# Altium footprint library CMR_Resistors_Capacitors_and_Inductors.PcbLib: 47 footprints (part 1 of 3)
Each footprint in its own frame and in the unit in brackets; x right, y up, seen from the top. Pads: shape width x height; smd on the part's side, far side on the other; paste and mask are expansions set on the pad; w line width, h text height; cw(c..) or ccw(c..) is an arc to the next point about the centre after c.
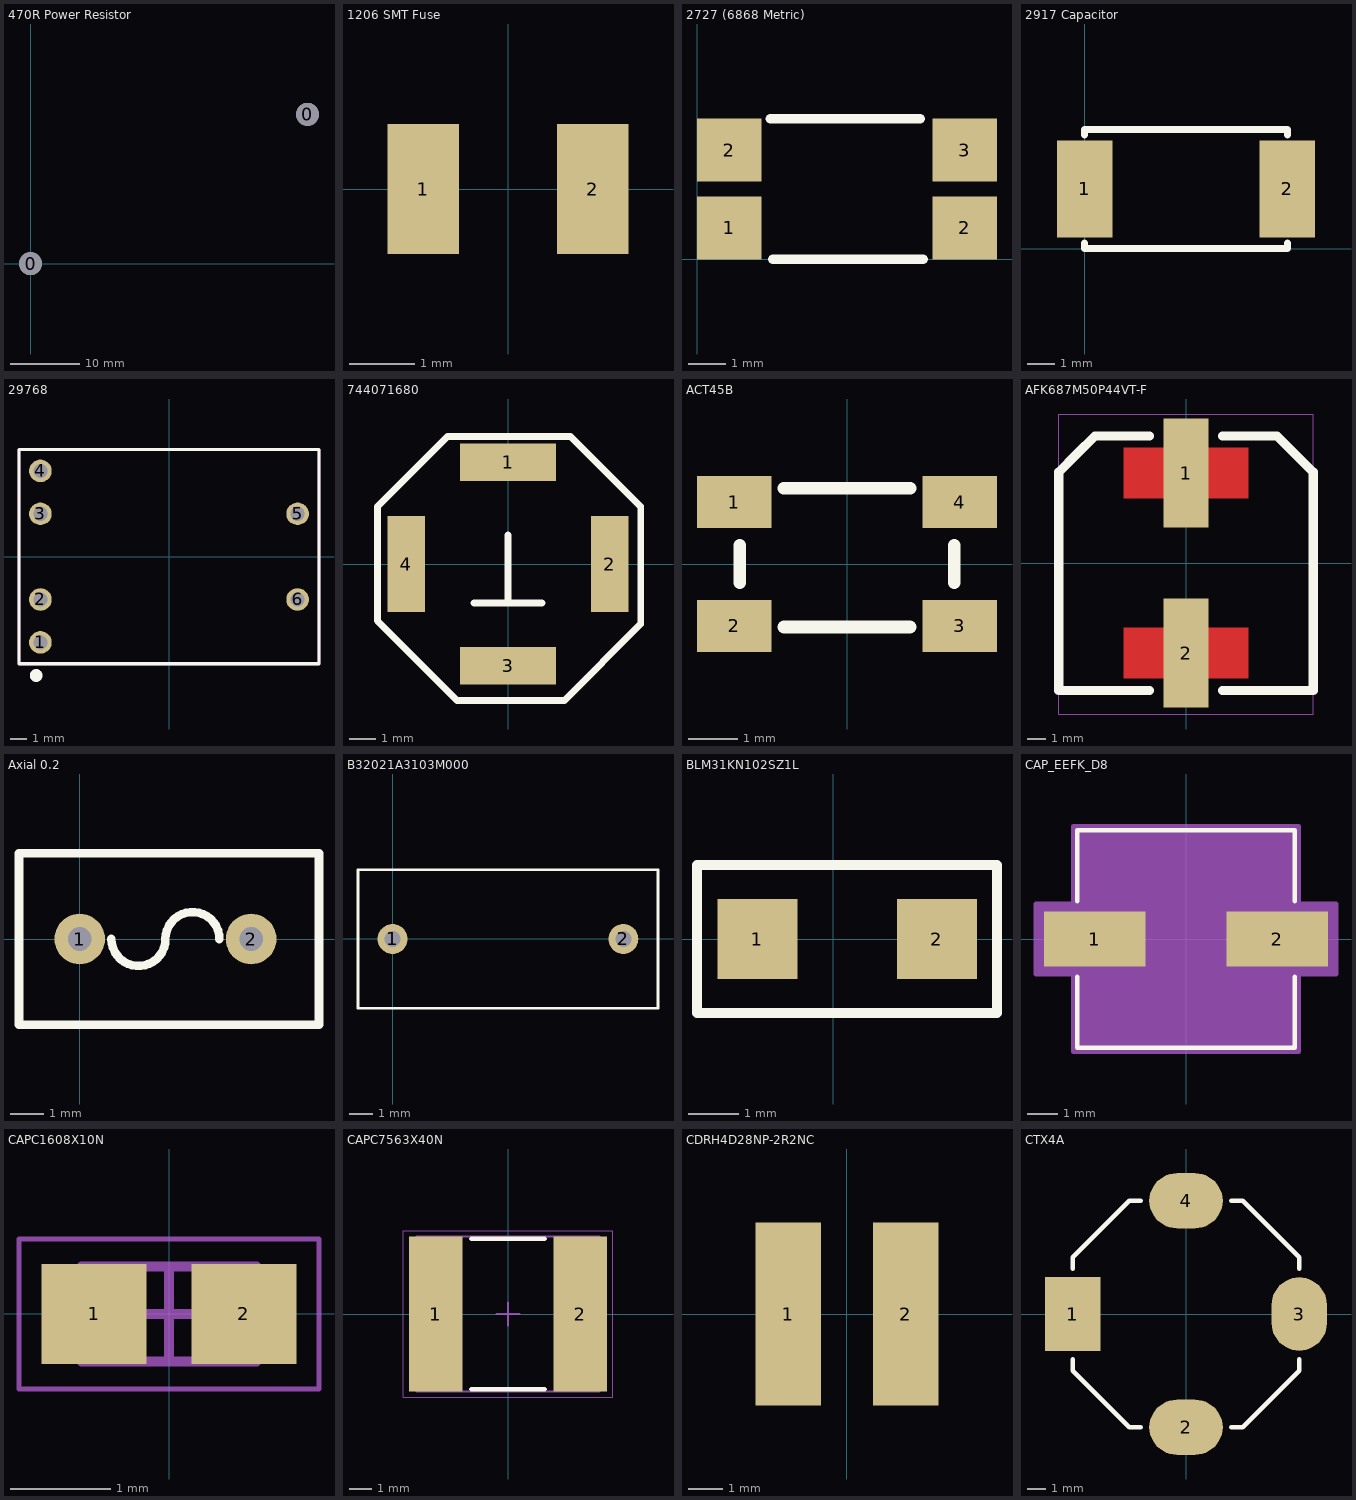
[diagram p0: the footprints below, top view; thin cyan lines are the x and y axes]

## 470R Power Resistor [mm] "HSA50 Series Power Resistor"
pads (2):
  round 3.3 hole 3.3 unplated paste+0 mask+0: 0(0,0) 0(39.7,21.4)
3D body "c-2-1625984-2-k-3d.stp": height 17, standoff 0, extent -16.412,-4.281 56.088,25.719

## 1206 SMT Fuse [mm] "for use with USFF 1206 Schurter Fuse"
height 1.6
pads (2):
  rect 1.1x2 smd: 1(-1.3,0) 2(1.3,0)
3D body "USFF1206.STEP": height 1.65, standoff -0.01, extent -1.6,-0.8 1.6,0.8

## 2727 (6868 Metric) [mm] "FIXED IND 230NH 13A 0.65 MOHM"
pads (4):
  rect 1.7x1.65 smd: 1(0.85,0.825) 2(0.85,2.875) 2(7.05,0.825) 3(7.05,2.875)
Top Overlay:
  region: 0,2.05
  lines w0.254: 1.925,3.7 5.875,3.7 ; 2,0 5.95,0
Top Solder:
  region: 1.7,3.8 1.7,1.95 3.225,1.95 3.225,-0.1 6.625,-0.1 6.625,1.75 4.875,1.75 4.875,3.8
3D body: height 5.35, standoff 0, extent 0.375,-1.75 7.375,5.45

## 2917 Capacitor [mm] "Tantalum Capacitor 2917"
height 2
pads (2):
  rect 2x3.5 smd: 1(0,2.15) 2(7.3,2.15)
Top Overlay:
  lines w0.254: 0,0.2 0,0 7.3,0 7.3,0.2 ; 0,4.1 0,4.3 7.3,4.3 7.3,4.1
3D body: height 2, standoff 0, extent 0,0 7.3,4.3

## 29768 [mm]
pads (6):
  round 1.34 hole 0.84: 1(-7.62,-5.08) 2(-7.62,-2.54) 3(-7.62,2.54) 4(-7.62,5.08) 5(7.62,2.54) 6(7.62,-2.54)
Top Overlay:
  circle w0.4: c-7.874,-7.045 r0.177
  lines w0.2: -8.89,-6.35 8.89,-6.35 8.89,6.35 -8.89,6.35 -8.89,-6.35
Mechanical 15:
  lines w0.2: -8.89,-6.35 -8.89,6.35 8.89,6.35 8.89,-6.35 -8.89,-6.35
3D body "29768_29775r6.STEP": height 9.02, standoff -3.43, extent -8.89,-6.35 8.89,6.35

## 744071680 [mm]
height 3.1
pads (4):
  rect 3.6x1.4 smd: 1(0,3.8) 3(0,-3.8)
  rect 1.4x3.6 smd: 2(3.8,0) 4(-3.8,0)
Top Overlay:
  lines w0.254: -1.27,-1.46 1.27,-1.46 ; 0,-1.46 0,1.08 ; -4.877,-2.12 -4.877,2.147 -2.261,4.763 2.337,4.763 4.953,2.147 4.953,-2.247 2.108,-5.092 -1.905,-5.092 -4.877,-2.12
3D body "WE-TPC_1028.stp": height 2.8, standoff 0.02, extent -4.971,-5.194 5.029,4.806

## ACT45B [mm] "CANBus Common Mode Choke"
height 3
pads (4):
  rect 1.5x1.05 smd: 1(-2.275,1.25) 2(-2.275,-1.25) 3(2.275,-1.25) 4(2.275,1.25)
Top Overlay:
  lines w0.254: -2.159,-0.381 -2.159,0.381 ; -1.27,-1.27 1.27,-1.27 ; -1.27,1.524 1.27,1.524 ; 2.159,-0.381 2.159,0.381
3D body: height 3, standoff 0, extent -2.35,-1.7 2.35,1.7

## AFK687M50P44VT-F [mm]
height 14.3
pads (2):
  rect 2.5x6 smd: 1(0,4.95) 2(0,-4.95)
Top Layer:
  rectangle: -3.45,-6.35 3.45,-3.55
  rectangle: -3.45,3.55 3.45,6.35
Top Overlay:
  lines w0.5: -2,-7 -7,-7 -7,5 -6,6 -5,7 -2,7 ; 2,-7 7,-7 7,5 5,7 2,7
Mechanical 15:
  lines w0.05: -7,-8.3 -0.25,-8.3 7,-8.3 7,8.2 -7,8.2 -7,-8.3
3D body: height 14.3, standoff 0, extent -6.5,-6.5 6.5,6.5
3D body: height 6, standoff 0, extent -6.75,-6.75 6.75,6.75

## Axial 0.2 [mm]
pads (2):
  round 1.5 hole 0.7: 1(0,0) 2(5.08,0)
Top Overlay:
  lines w0.254: 0.94,0 ccw(c1.74,0) 2.54,0 cw(c3.34,0) 4.14,0 ; -1.8,-2.54 -1.8,2.54 3.183,2.54 7.09,2.54 7.09,-2.54 -1.8,-2.54
3D body: height 8.76, standoff 0.2, extent -1.71,-2.5 6.99,2.5

## B32021A3103M000 [mm]
height 12
pads (2):
  round 1.3 hole 0.7: 1(0,0) 2(10,0)
Top Overlay:
  lines w0.127: -1.499,-3.003 -1.499,2.997 11.501,2.997 11.501,-3.003 -1.499,-3.003
3D body: height 12, standoff 0, extent -1.498,-3.002 11.501,2.997

## BLM31KN102SZ1L [mm]
pads (2):
  rect 1.6x1.6 smd: 1(-1.52,0) 2(2.07,0)
Top Overlay:
  lines w0.2: -2.725,-1.475 3.275,-1.475 3.275,1.475 -2.725,1.475 -2.725,0 -2.725,-1.475

## CAP_EEFK_D8 [mil]
pads (2):
  rect 130x70 smd paste+0 mask+0: 1(-116.5,0) 2(116.5,0)
Top Overlay:
  lines w6: -139,-48.1 -139,-139 139,-139 139,-48.1 ; -139,48.1 -139,139 139,139 139,48.1
Mechanical 13:
  lines w1: -134,-67 -67,-134 ; -134,67 -67,134 ; -134,-134 134,-134 134,134 -134,134 -134,-134
Mechanical 15:
  region: -144,-45 -191.5,-45 -191.5,45 -144,45 -144,144 144,144 144,45 191.5,45 191.5,-45 144,-45 144,-144 -144,-144
  lines w6: -191.5,-45 -191.5,45 -144,45 -144,144 144,144 144,45 191.5,45 191.5,-45 144,-45 144,-144 -144,-144 -144,-45 -191.5,-45
3D body: height 10, standoff 0, extent 0,0 10,10
3D body "CAP_EEFK_D8.stp": height 317.01, standoff 0, extent -153.5,-134.01 153.51,134.02

## CAPC1608X10N [mm] "Chip Capacitor, 2-Leads, Body 1.60x0.80mm, IPC Medium Density"
height 0.95
pads (2):
  rect 1.05x1 smd: 1(-0.75,0) 2(0.75,0)
Mechanical 13:
  lines w0.1: -0.875,-0.475 -0.875,0.475 0.875,0.475 0.875,-0.475 -0.875,-0.475
Mechanical 15:
  lines w0.05: -1.5,-0.75 -1.5,0.75 1.5,0.75 1.5,-0.75 -1.5,-0.75
  lines w0.1: -0.475,0 0.475,0 ; 0,-0.475 0,0.475
3D body "CAPC1608X10N.step": height 0.95, standoff 0, extent -0.875,-0.475 0.875,0.475

## CAPC7563X40N [mm] "Chip Capacitor, 2-Leads, Body 7.50x6.30mm, IPC Medium Density"
height 4
pads (2):
  rect 2.35x6.8 smd: 1(-3.175,0) 2(3.175,0)
Top Overlay:
  lines w0.2: -1.6,-3.3 1.6,-3.3 ; -1.6,3.3 1.6,3.3
Mechanical 13:
  lines w0.1: -4,-3.4 -4,3.4 4,3.4 4,-3.4 -4,-3.4
Mechanical 15:
  lines w0.05: -4.6,-3.65 -4.6,3.65 4.6,3.65 4.6,-3.65 -4.6,-3.65
  lines w0.1: -0.5,0 0.5,0 ; 0,-0.5 0,0.5
3D body "CAPC7563X40N.step": height 4, standoff 0, extent -4,-3.4 4,3.4

## CDRH4D28NP-2R2NC [mm]
pads (2):
  rect 1.9x5.3 smd: 1(-1.7,0) 2(1.7,0)

## CTX4A [mm] "CTX 4A series fixed inductor"
height 6.35
pads (4):
  rect 3.05x4.06 smd: 1(-6.25,0)
  oval 4.06x3.05 smd: 2(0,-6.25) 4(0,6.25)
  oval 3.05x4.06 smd: 3(6.25,0)
Top Overlay:
  lines w0.254: -6.25,-2.5 -6.25,-3.125 -3.125,-6.25 -2.5,-6.25 ; -6.25,2.5 -6.25,3.125 -3.125,6.25 -2.5,6.25 ; 2.5,-6.25 3.125,-6.25 6.25,-3.125 6.25,-2.95 6.25,-2.5 ; 2.5,6.25 3.125,6.25 6.25,3.125 6.25,2.5
3D body: height 6.35, standoff 0.25, extent -6.25,-6.25 6.25,6.25
3D body: height 1, standoff 0, extent -7.25,-1 -6.25,1
3D body: height 1, standoff 0, extent 6.25,-1 7.25,1
3D body: height 1, standoff 0, extent -1,-7.25 1,-6.25
3D body: height 1, standoff 0, extent -1,6.25 1,7.25